# Altium footprint library Diode_Adafruit_SK6812-D_eec_0.PcbLib: 1 footprints
Each footprint in its own frame and in the unit in brackets; x right, y up, seen from the top. Pads: shape width x height; smd on the part's side, far side on the other; paste and mask are expansions set on the pad; w line width, h text height; cw(c..) or ccw(c..) is an arc to the next point about the centre after c.
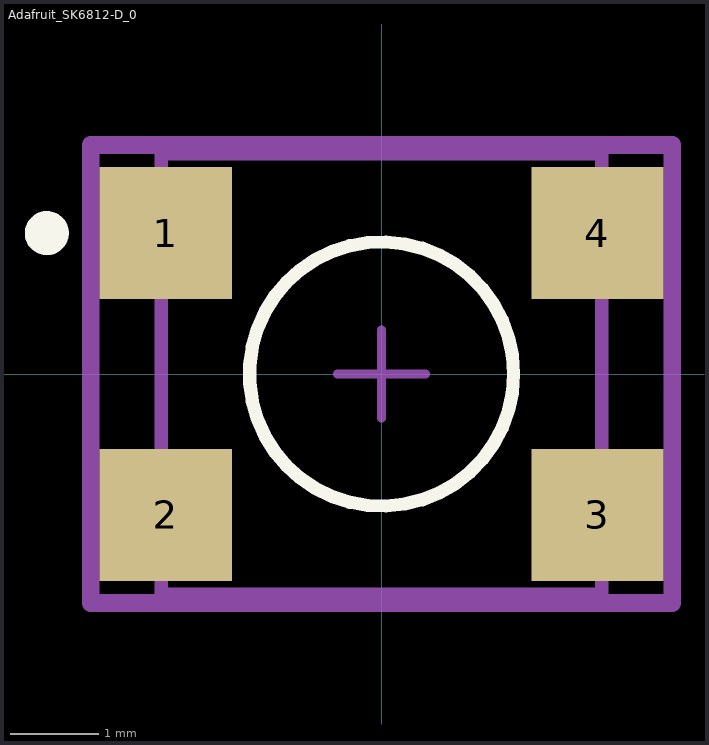
[diagram p0: the footprint, top view; thin cyan lines are the x and y axes]

## Adafruit_SK6812-D_0 [mm]
pads (4):
  rect 1.5x1.5 smd paste+0 mask+0: 1(-2.45,1.6) 2(-2.45,-1.6) 3(2.45,-1.6) 4(2.45,1.6)
Top Overlay:
  circle w0.25: c-3.8,1.6 r0.125
  circle w0.15: c0,0 r1.5
Mechanical 10:
  lines w0.2: -3.3,-2.6 3.3,-2.6 3.3,2.6 -3.3,2.6 -3.3,-2.6
  text ".Designator" at 0,0 h1
Mechanical 12:
  lines w0.15: -2.5,-2.5 2.5,-2.5 2.5,2.5 -2.5,2.5 -2.5,-2.5
Mechanical 15:
  lines w0.1: -0.5,0 0.5,0 ; 0,-0.5 0,0.5
  lines w0.2: -3.3,-2.6 3.3,-2.6 3.3,2.6 -3.3,2.6 -3.3,-2.6
3D body "3dmodel.step": height 0.25, standoff 0, extent -3.3,-2.6 3.3,2.6